# Altium schematic symbol library TI TPS61090_1_2.SchLib: 1 symbol
Pins are listed as number, name and electrical type; pins without a type are passive.

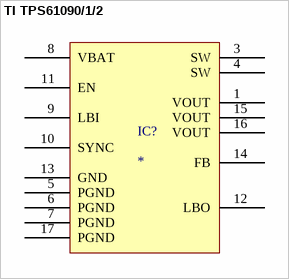
[diagram p0: symbol TI TPS61090/1/2]

## TI TPS61090/1/2
designator IC?
pins: 1 VOUT, 3 SW, 4 SW, 5 PGND, 6 PGND, 7 PGND, 8 VBAT, 9 LBI, 10 SYNC, 11 EN, 12 LBO, 13 GND, 14 FB, 15 VOUT, 16 VOUT, 17 PGND